# Altium schematic symbol library F1C100s.SchLib: 1 symbol
Pins are listed as number, name and electrical type; pins without a type are passive.

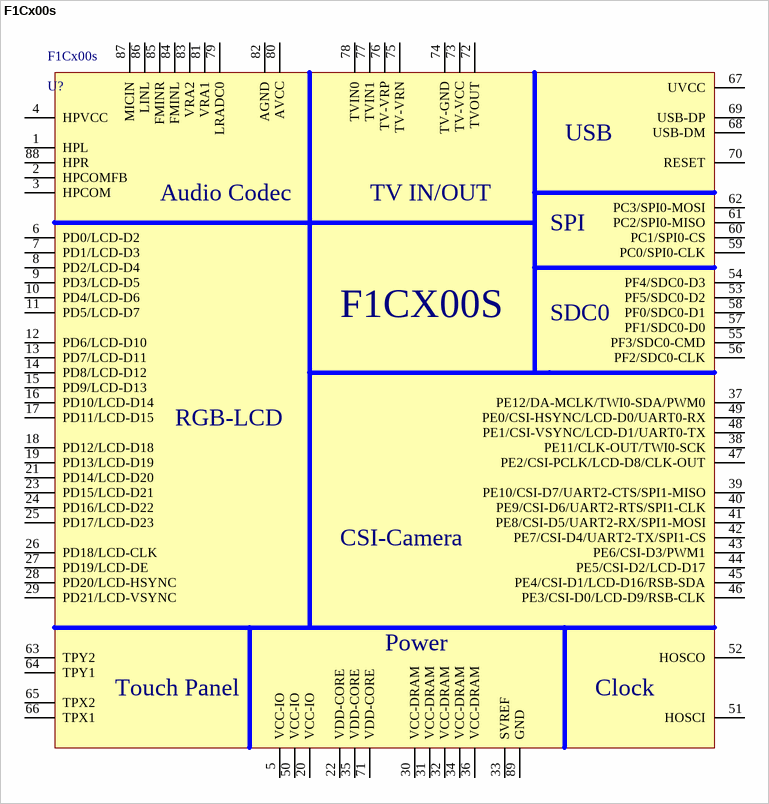
[diagram p0: symbol F1Cx00s]

## F1Cx00s
designator F1Cx00s, comment U?
footprint QFN127P600-8N (Allwiner new embedded processor with arm-a9)
pins: 1 HPL, 2 HPCOMFB, 3 HPCOM, 4 HPVCC, 5 VCC-IO, 6 PD0/LCD-D2, 7 PD1/LCD-D3, 8 PD2/LCD-D4, 9 PD3/LCD-D5, 10 PD4/LCD-D6, 11 PD5/LCD-D7, 12 PD6/LCD-D10, 13 PD7/LCD-D11, 14 PD8/LCD-D12, 15 PD9/LCD-D13, 16 PD10/LCD-D14, 17 PD11/LCD-D15, 18 PD12/LCD-D18, 19 PD13/LCD-D19, 20 VCC-IO, 21 PD14/LCD-D20, 22 VDD-CORE, 23 PD15/LCD-D21, 24 PD16/LCD-D22, 25 PD17/LCD-D23, 26 PD18/LCD-CLK, 27 PD19/LCD-DE, 28 PD20/LCD-HSYNC, 29 PD21/LCD-VSYNC, 30 VCC-DRAM, 31 VCC-DRAM, 32 VCC-DRAM, 33 SVREF, 34 VCC-DRAM, 35 VDD-CORE, 36 VCC-DRAM, 37 PE12/DA-MCLK/TWI0-SDA/PWM0, 38 PE11/CLK-OUT/TWI0-SCK, 39 PE10/CSI-D7/UART2-CTS/SPI1-MISO, 40 PE9/CSI-D6/UART2-RTS/SPI1-CLK, 41 PE8/CSI-D5/UART2-RX/SPI1-MOSI, 42 PE7/CSI-D4/UART2-TX/SPI1-CS, 43 PE6/CSI-D3/PWM1, 44 PE5/CSI-D2/LCD-D17, 45 PE4/CSI-D1/LCD-D16/RSB-SDA, 46 PE3/CSI-D0/LCD-D9/RSB-CLK, 47 PE2/CSI-PCLK/LCD-D8/CLK-OUT, 48 PE1/CSI-VSYNC/LCD-D1/UART0-TX, 49 PE0/CSI-HSYNC/LCD-D0/UART0-RX, 50 VCC-IO, 51 HOSCI, 52 HOSCO, 53 PF5/SDC0-D2, 54 PF4/SDC0-D3, 55 PF3/SDC0-CMD, 56 PF2/SDC0-CLK, 57 PF1/SDC0-D0, 58 PF0/SDC0-D1, 59 PC0/SPI0-CLK, 60 PC1/SPI0-CS, 61 PC2/SPI0-MISO, 62 PC3/SPI0-MOSI, 63 TPY2, 64 TPY1, 65 TPX2, 66 TPX1, 67 UVCC, 68 USB-DM, 69 USB-DP, 70 RESET, 71 VDD-CORE, 72 TVOUT, 73 TV-VCC, 74 TV-GND, 75 TV-VRN, 76 TV-VRP, 77 TVIN1, 78 TVIN0, 79 LRADC0, 80 AVCC, 81 VRA1, 82 AGND, 83 VRA2, 84 FMINL, 85 FMINR, 86 LINL, 87 MICIN, 88 HPR, 89 GND
text: USB; Audio Codec; TV IN/OUT; SPI; F1CX00S; SDC0; RGB-LCD; CSI-Camera; Power; Touch Panel; Clock